# EAGLE library part HFD31/*-L2 (library Bedinino Relays)
Subminiature dual coil latching signal relay * Max DC current 1A * Dual Pole Dual Trought (DPDT) * Dual coil latching (set coil & reset coil). * Low power consumption
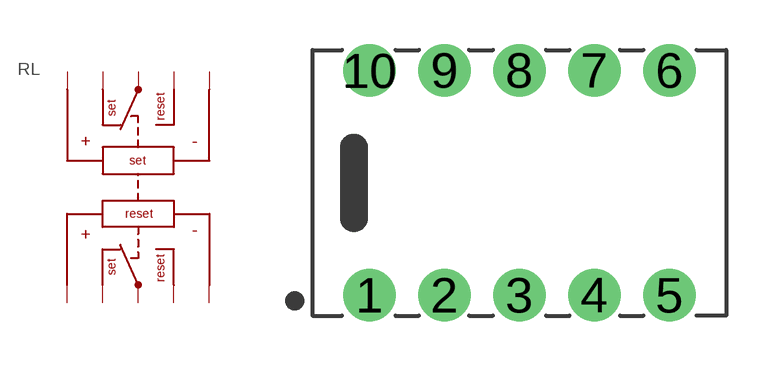
[diagram p0: symbol with the pads of HFD31; footprint HFD31]

Designator prefix RL

## HFD31/12-L2 (MANUFACTURER: Hongfa; VAL: HFD31/12-L2), HFD31/5-L2 (MANUFACTURER: Hongfa; VAL: HFD31/5-L2)  [HFD31]
1  1
2  2
3  3
4  4
5  5
6  6
7  7
8  8
9  9
10  10

## Footprint HFD31 (pad centres in mm)
drill 1 pad 1.778: 1 -5.08,-3.81; 2 -2.54,-3.81; 3 0,-3.81; 4 2.54,-3.81; 5 5.08,-3.81; 6 5.08,3.81; 7 2.54,3.81; 8 0,3.81; 9 -2.54,3.81; 10 -5.08,3.81